# Altium schematic symbol library connector2pin.SchLib: 1 symbol
Pins are listed as number, name and electrical type; pins without a type are passive.

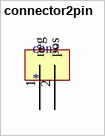
[diagram p0: symbol connector2pin]

## connector2pin
designator con?
footprint connector2pin (2 pim connector)
pins: 1 neg (power), 2 pos (power)